# Altium schematic symbol library LCD.SchLib: 1 symbol
Pins are listed as number, name and electrical type; pins without a type are passive.

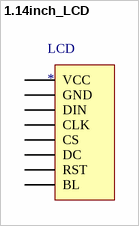
[diagram p0: symbol 1.14inch_LCD]

## 1.14inch_LCD
designator LCD
footprint LCD (Footprint not found)
pins: ?1 VCC, ?2 GND, ?3 DIN, ?4 CLK, ?5 CS, ?6 DC, ?7 RST, ?8 BL